# EAGLE library part ECE477_PARTS_LIBRARY_2_5VREG (library ECE477_parts_library)
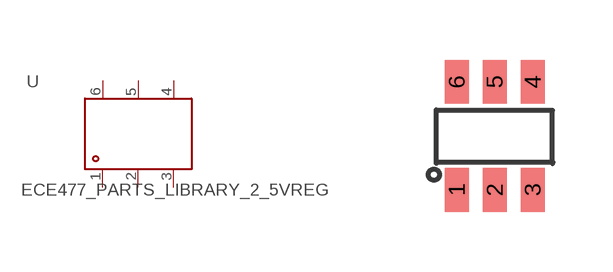
[diagram p0: symbol with the pads of ECE477_PARTS_LIBRARY_REG710NASOC6; footprint ECE477_PARTS_LIBRARY_REG710NASOC6]

Designator prefix -

## ECE477_PARTS_LIBRARY_2_5VREG  [ECE477_PARTS_LIBRARY_REG710NASOC6]
1  1
2  2
3  3
4  4
5  5
6  6

## Footprint ECE477_PARTS_LIBRARY_REG710NASOC6 (pad centres in mm)
smd 0.6 x 1.1: 1 0,0; 2 0.95,0; 3 1.9,0; 4 1.9,2.7; 5 0.95,2.7; 6 0,2.7